# EAGLE library part ATMEGA328P_PDIP_EZ (library SparkFun-IC-Microcontroller)
Keyed ATMEGA328 DIP This is a version of the DIP package with pin 28 clipped to prevent reverse insertion. See regular 328 for product references.
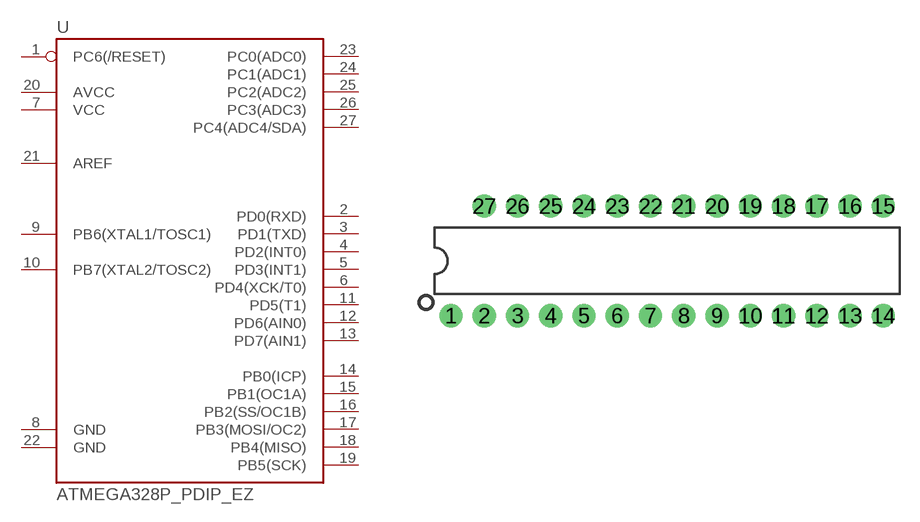
[diagram p6: symbol with the pads of DIP28-SIMON-KIT; footprint DIP28-SIMON-KIT]

Designator prefix U

## ATMEGA328P_PDIP_EZ  [DIP28-SIMON-KIT]
1  PC6(/RESET)
2  PD0(RXD)
3  PD1(TXD)
4  PD2(INT0)
5  PD3(INT1)
6  PD4(XCK/T0)
7  VCC
8  GND
9  PB6(XTAL1/TOSC1)
10  PB7(XTAL2/TOSC2)
11  PD5(T1)
12  PD6(AIN0)
13  PD7(AIN1)
14  PB0(ICP)
15  PB1(OC1A)
16  PB2(SS/OC1B)
17  PB3(MOSI/OC2)
18  PB4(MISO)
19  PB5(SCK)
20  AVCC
21  AREF
22  GND
23  PC0(ADC0)
24  PC1(ADC1)
25  PC2(ADC2)
26  PC3(ADC3)
27  PC4(ADC4/SDA)

## Footprint DIP28-SIMON-KIT (pad centres in mm)
28-pin "EZ" package. Pin 28 is clipped during kitting to key the chip. Pins are spaced a little wider than normal to ease insertion. Top mask deleted so solder can ONLY be applied on bottom.
drill 0.864 pad 1.778: 1 -16.51,-4.191; 2 -13.97,-4.191; 3 -11.43,-4.191; 4 -8.89,-4.191; 5 -6.35,-4.191; 6 -3.81,-4.191; 7 -1.27,-4.191; 8 1.27,-4.191; 9 3.81,-4.191; 10 6.35,-4.191; 11 8.89,-4.191; 12 11.43,-4.191; 13 13.97,-4.191; 14 16.51,-4.191; 15 16.51,4.191; 16 13.97,4.191; 17 11.43,4.191; 18 8.89,4.191; 19 6.35,4.191; 20 3.81,4.191; 21 1.27,4.191; 22 -1.27,4.191; 23 -3.81,4.191; 24 -6.35,4.191; 25 -8.89,4.191; 26 -11.43,4.191; 27 -13.97,4.191